# EAGLE library part AT86RF233 (library imix)
AT86RF233 is a high performance RF-CMOS 2.4GHz radio transceiver targeted for IEEE® 802.15.4, ZigBee®, RF4CE, 6LoWPAN, and ISM applications. -40°C to +85°C (industry) and -40°C to +125°C (extended). 1.8 V to 3.6 V supply voltage with internal regulator.
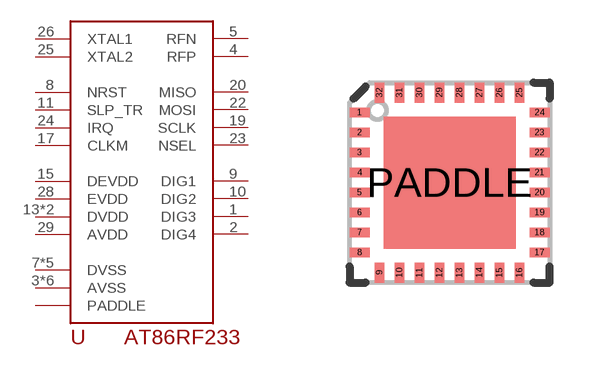
[diagram p8: symbol with the pads of 32QN2; footprint 32QN2]

Designator prefix U

## AT86RF233  [32QN2]
1  DIG3
2  DIG4
3  AVSS  pwr
4  RFP
5  RFN
6  AVSS  pwr
7  DVSS  pwr
8  NRST
9  DIG1
10  DIG2
11  SLP_TR
12  DVSS  pwr
13  DVDD  pwr
14  DVDD  pwr
15  DEVDD  pwr
16  DVSS  pwr
17  CLKM
18  DVSS  pwr
19  SCLK
20  MISO
21  DVSS  pwr
22  MOSI
23  NSEL
24  IRQ
25  XTAL2
26  XTAL1
27  AVSS  pwr
28  EVDD  pwr
29  AVDD  pwr
30  AVSS  pwr
31  AVSS  pwr
32  AVSS  pwr
PADDLE  PADDLE  pwr

## Footprint 32QN2 (pad centres in mm)
SMD 32QN2 footprint for the AT86RF233.
smd 0.5 x 0.23: 1 -2.25,1.75; 2 -2.25,1.25; 3 -2.25,0.75; 4 -2.25,0.25; 5 -2.25,-0.25; 6 -2.25,-0.75; 7 -2.25,-1.25; 8 -2.25,-1.75; 17 2.25,-1.75; 18 2.25,-1.25; 19 2.25,-0.75; 20 2.25,-0.25; 21 2.25,0.25; 22 2.25,0.75; 23 2.25,1.25; 24 2.25,1.75
smd 0.23 x 0.5: 9 -1.75,-2.25; 10 -1.25,-2.25; 11 -0.75,-2.25; 12 -0.25,-2.25; 13 0.25,-2.25; 14 0.75,-2.25; 15 1.25,-2.25; 16 1.75,-2.25; 25 1.75,2.25; 26 1.25,2.25; 27 0.75,2.25; 28 0.25,2.25; 29 -0.25,2.25; 30 -0.75,2.25; 31 -1.25,2.25; 32 -1.75,2.25
smd 3.3 x 3.3: PADDLE 0,0